# Altium schematic symbol library FCC_Connector.SchLib: 2 symbols
Pins are listed as number, name and electrical type; pins without a type are passive.

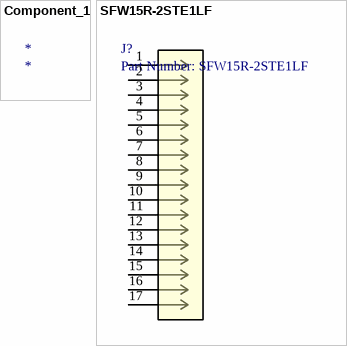
[diagram p0: symbols Component_1 to SFW15R-2STE1LF]

## Component_1
designator *

## SFW15R-2STE1LF
designator J?, comment Part Number: SFW15R-2STE1LF
No Description Available; Vendor: FCI; Built_By: EMA_UL_Team; Manufacturer_Part_Number: SFW15R-2STE1LF; Copyright: Copyright (C) 2018 Accelerated Designs. All rights reserved; RefDes: RefDes; Type: DEV; Value: Value
footprint CON15_1X15_DRB_S
pins: 1, 2, 3, 4, 5, 6, 7, 8, 9, 10, 11, 12, 13, 14, 15, 16, 17